# EAGLE library part 2301843-1 (library 2301843-1)
Body Features: Primary Product Color Black | Connector Profile Standard | Configuration Features: Number of Positions 9 | PCB Mount Orientation Right Angle | Number of Rows 2 | Contact Features: Contact Current Rating (Max) 2 AMP | Contact Shape & Form Round | Dimensions: Row-to-Row Spacing 2.84 MM | Row-to-Row Spacing .111 INCH | Housing Features: Centerline (Pitch) 2.77 MM | Centerline (Pitch) .109 INCH | Housing Material PBT GF | Mechanical Attachment: PCB Mount Retention Type Boardlock | Mating Retentio Source: Datasheet <https://componentsearchengine.com/Datasheets/2/2301843-1.pdf>
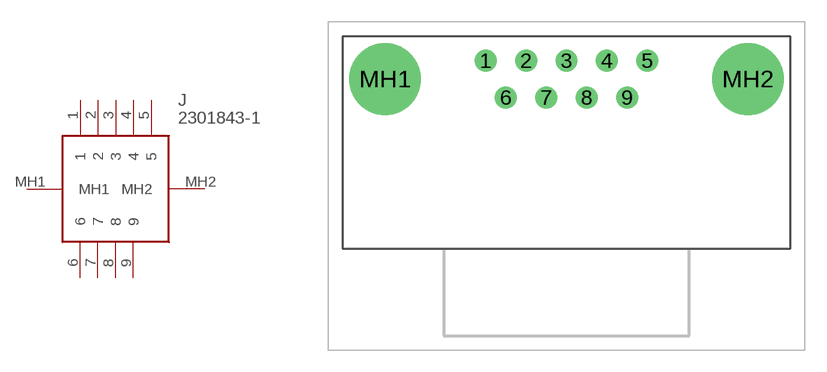
[diagram p0: symbol with the pads of 23018431; footprint 23018431]

Designator prefix J

## 2301843-1 (Description: Body Features: Primary Product Color Black | Connector Profile Standard | Configuration Features: Number of Positions 9 | PCB Mount Orientation Right Angle | Number of Rows 2 | Contact Features: Contact Current Rating (Max) 2 AMP | Contact Shape & Form Round | Dimensions: Row-to-Row Spacing 2.84 MM | Row-to-Row Spacing .111 INCH | Housing Features: Centerline (Pitch) 2.77 MM | Centerline (Pitch) .109 INCH | Housing Material PBT GF | Mechanical Attachment: PCB Mount Retention Type Boardlock | Mating Retentio; Height: 13.955mm; Manufacturer_Name: TE Connectivity; Manufacturer_Part_Number: 2301843-1; Mouser_Part_Number: 571-2301843-1; Mouser_Price-Stock: https://www.mouser.co.uk/ProductDetail/TE-Connectivity-AMP/2301843-1?qs=rrS6PyfT74crws9wAQVNoA%3D%3D)  [23018431]
1  1
2  2
3  3
4  4
5  5
6  6
7  7
8  8
9  9
MH1  MH1
MH2  MH2

## Footprint 23018431 (pad centres in mm)
2301843-1-3
drill 1 pad 1.5: 1 0,0; 2 2.78,0; 3 5.56,0; 4 8.34,0; 5 11.12,0; 6 1.39,-2.54; 7 4.17,-2.54; 8 6.95,-2.54; 9 9.73,-2.54
drill 3.3 pad 4.95: MH1 -6.935,-1.27; MH2 18.055,-1.27